# Altium integrated library RES MISC.IntLib: 5 symbols
Pins are listed as number, name and electrical type; pins without a type are passive.

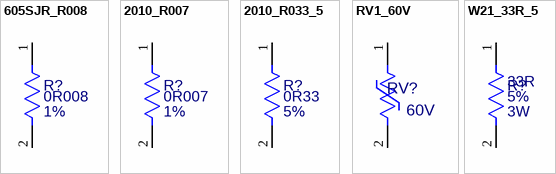
[diagram p0: symbols 605SJR_R008 to W21_33R_5]

## 605SJR_R008
designator R?, comment value 0R008  Tolerance: 1%  (hidden comment: TMP_US_605SJR)
Resistor, 0.008 Ohm; Power Rating: 0W10; ECAD_Revision: 1; Librarian: US; PartNumber: TMP_US_605SJR; Item: *; HelpURL: K:\ACCELEDA\PDF Spec Files\Resistor\605SJR.pdf
simulation model RESISTOR
footprint 605SJR (Metal Alloy Current Sense 60S Series)
pins: 1, 2

## 2010_R007
designator R?, comment value 0R007  Tolerance: 1%  (hidden comment: AWT25-500023)
Resistor, 0.007 Ohm; Power Rating: 0W5; ECAD_Revision: 2; Librarian: US; PartNumber: AWT25-500023; Item: *; HelpURL: K:\ACCELEDA\PDF Spec Files\Resistor\wsl.pdf
simulation model RESISTOR
footprint 2010_007-5 (2010 Series 0.007 - 0.5 Ohms)
pins: 1, 2

## 2010_R033_5
designator R?, comment value 0R33  Tolerance: 5%  (hidden comment: RXF0R3300/JETT)
Resistor, 0.33 Ohm, 5%, 0W25; ECAD_Revision: 1; Librarian: UK; PartNumber: RXF0R3300/JETT; Item: *; HelpURL: *; Power Rating: 0W25
simulation model RESISTOR
footprint 2010_007-5 (2010 Series 0.007 - 0.5 Ohms)
pins: 1, 2

## RV1_60V
designator RV?, comment value 60V  (hidden comment: 16046-0200)
Varistor, 60V 0.6W; Tolerance: %; PartNumber: 16046-0200; Power Rating: 0.6W; HelpURL: K:\ACCELEDA\PDF Spec Files\Resistor\pan erz.pdf; Item: *
footprint RV1
pins: 1, 2

## W21_33R_5
designator R?, comment value 33R  Power Rating: 3W  Tolerance: 5%  (hidden comment: AWT25-000190)
Resistor, 33 Ohm, 5%, 3W, WIRE WOUND; ECAD_Revision: 1; Librarian: UK; PartNumber: AWT25-000190; Item: *; HelpURL: *
simulation model RESISTOR
footprint W21_SERIES (Body 12.7x5.6mm, Pitch 18.5mm, Rev.1)
pins: 1, 2